# Altium integrated library Analog Devices Clock Generation and Distribution.IntLib: 120 symbols (part 14 of 18)
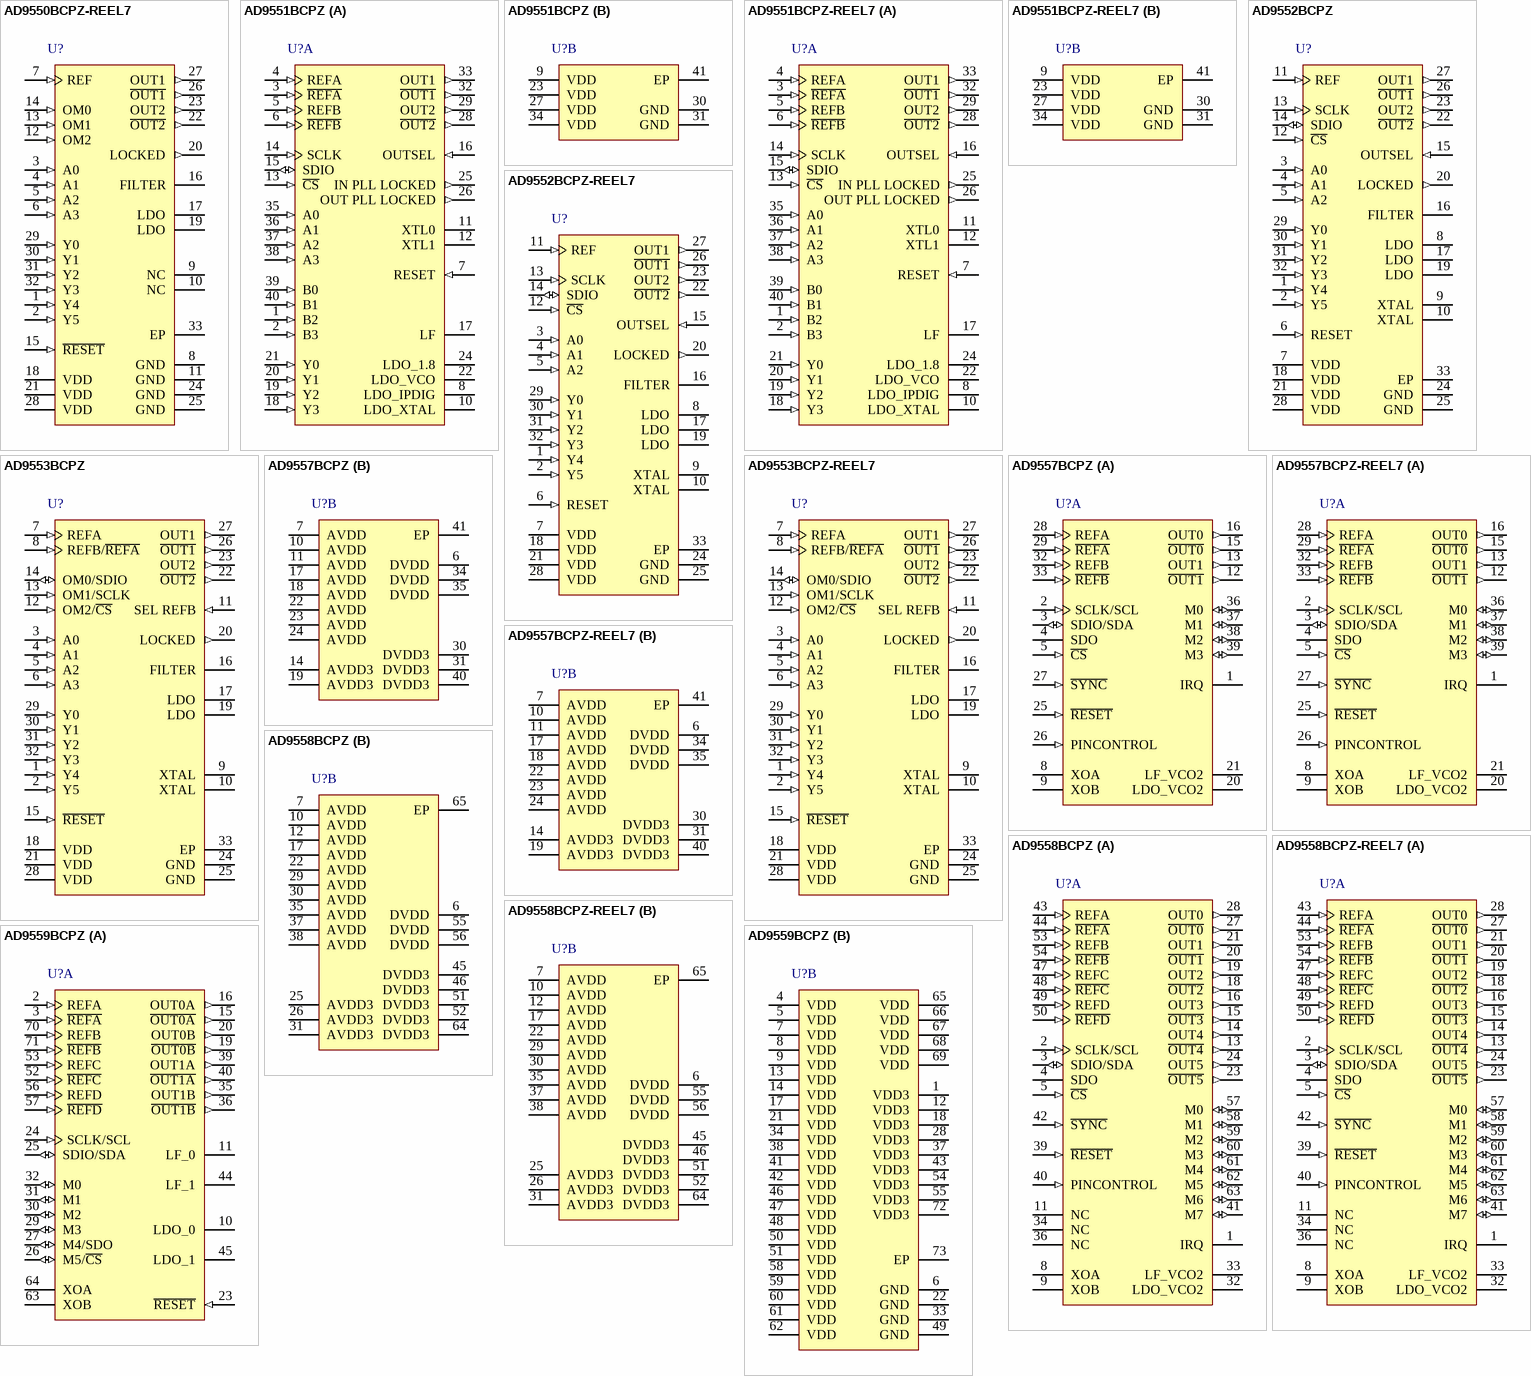
[diagram p25: symbols AD9550BCPZ-REEL7 to AD9559BCPZ]

## AD9551BCPZ-REEL7
designator U?
Multiservice Clock Generator, 3.3 V Supply, Industrial, 40-pin QFN (CP-40-8), Reel; Manufacturer: Analog Devices; PartNumber: AD9551BCPZ-REEL7; # of Inputs: 2; Supply Voltage (V): 3.3; I/O Interface: Serial; Max f-out: 900 MHz; On-Chip VCO or DCO: Yes; Output Logic: LVDS, LVPECL, CMOS; DatasheetVersion: Rev. B; PackageVersion: 082708-A, 08/2008; PackageReference: CP-40-8; PackageDescription: 40-Pin Lead Frame Chip Scale Package, Body 6 x 6 mm, Pitch 0.5 mm; Supplier 1: Digi-Key; Supplier Part Number 1: AD9551BCPZ-REEL7CT-ND; Supplier 2: Digi-Key; Supplier Part Number 2: AD9551BCPZ-REEL7DKR-ND; Supplier 3: Newark; Supplier Part Number 3: 05R6607; Supplier 4: Mouser; Supplier Part Number 4: 584-AD9551BCPZ-R7; # of Outputs: 2; Packing: Reel; Mounting Technology: Surface Mount; Code_JEDEC: MO-220-VJJD-2; ComponentLink1Description: Manufacturer URL; ComponentLink1URL: http://www.analog.com/en/index.html; ComponentLink2Description: Datasheet; ComponentLink2URL: http://www.analog.com/static/imported-files/data_sheets/AD9551.pdf; ComponentLink3Description: Package Specification; ComponentLink3URL: http:/www.analog.com/static/imported-files/packages/PKG_PDF/LFCSP(CP)/CP_40_8.pdf; ComponentLink4Description: Product URL; ComponentLink4URL: http://www.analog.com/en/clock-and-timing/clock-generation-and-distribution/ad9551/products/product.html
footprint ADI-CP-40-8_N (QFN, 40-Leads, Body 6x6mm, Pitch 0.5mm, Thermal Pad 2.9x2.9mm, IPC Medium Density)
footprint ADI-CP-40-8_L (QFN, 40-Leads, Body 6x6mm, Pitch 0.5mm, Thermal Pad 2.9x2.9mm, IPC High Density)
footprint ADI-CP-40-8_M (QFN, 40-Leads, Body 6x6mm, Pitch 0.5mm, Thermal Pad 2.9x2.9mm, IPC Low Density)
part A pins: 1 B2 (in) "Control Pin. Selects preset values for the REFB dividers.", 2 B3 (in) "Control Pin. Selects preset values for the REFB dividers.", 3 ~{REFA} (in) "Analog Input (Active High)-Complementary Reference Clock Input A.", 4 REFA (in) "Analog Input (Active High)-Reference Clock Input A.", 5 REFB (in) "Analog Input (Active High)-Reference Clock Input B.", 6 ~{REFB} (in) "Analog Input (Active High)-Complementary Reference Clock Input B.", 7 RESET (in) "Digital Input (Active High). Resets internal logic to default states. This pin has an internal 100 k ohm pull-up resistor, so the default state of the device is reset.", 8 LDO_IPDIG "LDO Decoupling Pin. Connect a 0.47 uF decoupling capacitor from this pin to ground.", 10 LDO_XTAL "LDO Decoupling Pin. Connect a 0.47 uF decoupling capacitor from this pin to ground.", 11 XTL0 "Pin for Connecting an External Crystal (20 MHz to 30 MHz).", 12 XTL1 "Pin for Connecting an External Crystal (20 MHz to 30 MHz).", 13 ~{CS} (in) "Digital Input Chip Select (Active Low).", 14 SCLK (in) "Serial Data Clock.", 15 SDIO (io) "Digital Serial Data Input/Output.", 16 OUTSEL (in) "Logic 0 selects LVDS, and Logic 1 selects LVPECL-compatible levels for both OUT1 and OUT2 when the outputs are not under SPI port control. Can be overridden via the programming registers.", 17 LF "Loop Filter Node for the Output PLL. Connect an external 12 nF capacitor (100 nF in 19.44 MHz mode) from this pin to Pin 22 ( LDO_VCO).", 18 Y3 (in) "Control Pin. Selects preset values for the output PLL feedback dividers and OUT1 dividers.", 19 Y2 (in) "Control Pin. Selects preset values for the output PLL feedback dividers and OUT1 dividers.", 20 Y1 (in) "Control Pin. Selects preset values for the output PLL feedback dividers and OUT1 dividers.", 21 Y0 (in) "Control Pin. Selects preset values for the output PLL feedback dividers and OUT1 dividers.", 22 LDO_VCO "LDO Decoupling Pin. Connect a 0.47 uF decoupling capacitor from this pin to ground.", 24 LDO_1.8 "LDO Decoupling Pin. Connect a 0.47 uF decoupling capacitor from this pin to ground.", 25 IN PLL LOCKED (out) "Active High Locked Status Indicator for the Input PLL.", 26 OUT PLL LOCKED (out) "Active High Locked Status Indicator for the Output PLL.", 28 ~{OUT2} (out) "Complementary Square Wave Clocking Output 2.", 29 OUT2 (out) "Square Wave Clocking Output 2.", 32 ~{OUT1} (out) "Complementary Square Wave Clocking Output 1.", 33 OUT1 (out) "Square Wave Clocking Output 1.", 35 A0 (in) "Control Pin. Selects preset values for the REFA dividers.", 36 A1 (in) "Control Pin. Selects preset values for the REFA dividers.", 37 A2 (in) "Control Pin. Selects preset values for the REFA dividers.", 38 A3 (in) "Control Pin. Selects preset values for the REFA dividers.", 39 B0 (in) "Control Pin. Selects preset values for the REFB dividers.", 40 B1 (in) "Control Pin. Selects preset values for the REFB dividers."
part B pins: 9 VDD (power) "Power Supply Connection (3.3 V Analog Supply).", 23 VDD (power) "Power Supply Connection (3.3 V Analog Supply).", 27 VDD (power) "Power Supply Connection (3.3 V Analog Supply).", 30 GND (power) "Analog Ground.", 31 GND (power) "Analog Ground.", 34 VDD (power) "Power Supply Connection (3.3 V Analog Supply).", 41 EP (power) "The exposed die pad must be connected to GND."

## AD9552BCPZ
designator U?
Oscillator Frequency Up Converter, 3.3 V Supply, Industrial, 32-pin QFN (CP-32-7), Tray; Manufacturer: Analog Devices; PartNumber: AD9552BCPZ; # of Inputs: 1; # of Outputs: 2; Supply Voltage (V): 3.3; I/O Interface: Pin Select, Serial; Max f-out: 900 MHz; On-Chip VCO or DCO: Yes; Output Logic: LVDS, LVPECL, CMOS; DatasheetVersion: Rev. E; PackageVersion: 112408-A, 11/2008; PackageReference: CP-32-7; PackageDescription: 32-Pin Lead Frame Chip Scale Package, Body 5 x 5 mm, Pitch 0.5 mm; Supplier 1: Digi-Key; Supplier Part Number 1: AD9552BCPZ-ND; Supplier 2: Farnell; Supplier Part Number 2: 1827294; Supplier 3: Newark; Supplier Part Number 3: 81R1746; Supplier 4: Newark; Supplier Part Number 4: 26R2515; Supplier 5: Mouser; Supplier Part Number 5: 584-AD9552BCPZ; Packing: Tray; Mounting Technology: Surface Mount; Code_JEDEC: MO-220-WHHD; ComponentLink1Description: Manufacturer URL; ComponentLink1URL: http://www.analog.com/en/index.html; ComponentLink2Description: Datasheet; ComponentLink2URL: http://www.analog.com/static/imported-files/data_sheets/AD9552.pdf; ComponentLink3Description: Package Specification; ComponentLink3URL: http://www.analog.com/static/imported-files/packages/CP_32_7.pdf; ComponentLink4Description: Product URL; ComponentLink4URL: http://www.analog.com/en/clock-and-timing/clock-generation-and-distribution/ad9552/products/product.html; ComponentLink5Description: Reference Circuit; ComponentLink5URL: http://www.analog.com/en/clock-and-timing/clock-generation-and-distribution/ad9552/products/product.html#product-recommendations
footprint ADI-CP-32-7_N (QFN, 32-Leads, Body 5x5mm, Pitch 0.5mm, Thermal Pad 3.1x3.1mm, IPC Medium Density)
footprint ADI-CP-32-7_L (QFN, 32-Leads, Body 5x5mm, Pitch 0.5mm, Thermal Pad 3.1x3.1mm, IPC High Density)
footprint ADI-CP-32-7_M (QFN, 32-Leads, Body 5x5mm, Pitch 0.5mm, Thermal Pad 3.1x3.1mm, IPC Low Density)
pins: 1 Y4 (in) "Control Pin. This pin select preset values for the PLL feedback divider and the OUT1 dividers based on the input reference frequency selected via the A[0:2] pins and have internal 100 k ohm pull-up resistors.", 2 Y5 (in) "Control Pin. This pin select preset values for the PLL feedback divider and the OUT1 dividers based on the input reference frequency selected via the A[0:2] pins and have internal 100 k ohm pull-up resistors.", 3 A0 (in) "Control Pin. This pin select the input reference frequency and have internal 100 k ohm pullup resistors.", 4 A1 (in) "Control Pin. This pin select the input reference frequency and have internal 100 k ohm pullup resistors.", 5 A2 (in) "Control Pin. This pin select the input reference frequency and have internal 100 k ohm pullup resistors.", 6 RESET (in) "Digital Input, Active High. Resets internal logic to default states. This pin has an internal 100 k ohm pull-up resistor, so the default state of the device is reset.", 7 VDD (power) "Power Supply Connection: 3.3 V Analog Supply", 8 LDO "LDO Decoupling Pin. Connect a 0.47 uF decoupling capacitor from each of these pins to ground.", 9 XTAL "Crystal Resonator Input. Connect a crystal resonator across these pins.", 10 XTAL "Crystal Resonator Input. Connect a crystal resonator across these pins.", 11 REF (in) "Reference Clock Input. Connect this pin to an active clock input signal, or connect it to VDD when using a crystal resonator across the XTAL pins.", 12 ~{CS} (in) "Digital Input, Active Low, Chip Select.", 13 SCLK (in) "Serial Data Clock.", 14 SDIO (io) "Digital Serial Data Input/Output.", 15 OUTSEL (in) "Logic 0 selects LVDS and Logic 1 selects LVPECL-compatible levels for both OUT1 and OUT2 when the outputs are not under SPI port control. Can be overridden via the programming registers. This pin has an internal 100 k ohm (See Datasheet)", 16 FILTER "Loop Filter Node for the PLL. Connect an external 12 nF capacitor from this pin to Pin 17 (LDO).", 17 LDO "LDO Decoupling Pin. Connect a 0.47 uF decoupling capacitor from each of these pins to ground.", 18 VDD (power) "Power Supply Connection: 3.3 V Analog Supply", 19 LDO "LDO Decoupling Pin. Connect a 0.47 uF decoupling capacitor from each of these pins to ground.", 20 LOCKED (out) "Active High Locked Status Indicator for the PLL.", 21 VDD (power) "Power Supply Connection: 3.3 V Analog Supply", 22 ~{OUT2} (out) "Complementary Square Wave Clocking Output.", 23 OUT2 (out) "Square Wave Clocking Output", 24 GND (power) "Analog Ground.", 25 GND (power) "Analog Ground.", 26 ~{OUT1} (out) "Complementary Square Wave Clocking Output.", 27 OUT1 (out) "Square Wave Clocking Output", 28 VDD (power) "Power Supply Connection: 3.3 V Analog Supply", 29 Y0 (in) "Control Pin. This pin select preset values for the PLL feedback divider and the OUT1 dividers based on the input reference frequency selected via the A[0:2] pins and have internal 100 k ohm pull-up resistors.", 30 Y1 (in) "Control Pin. This pin select preset values for the PLL feedback divider and the OUT1 dividers based on the input reference frequency selected via the A[0:2] pins and have internal 100 k ohm pull-up resistors.", 31 Y2 (in) "Control Pin. This pin select preset values for the PLL feedback divider and the OUT1 dividers based on the input reference frequency selected via the A[0:2] pins and have internal 100 k ohm pull-up resistors.", 32 Y3 (in) "Control Pin. This pin select preset values for the PLL feedback divider and the OUT1 dividers based on the input reference frequency selected via the A[0:2] pins and have internal 100 k ohm pull-up resistors.", 33 EP (power) "The exposed die pad must be connected to GND."

## AD9552BCPZ-REEL7
designator U?
Oscillator Frequency Up Converter, 3.3 V Supply, Industrial, 32-pin QFN (CP-32-7), Reel; Manufacturer: Analog Devices; PartNumber: AD9552BCPZ-REEL7; # of Inputs: 1; # of Outputs: 2; Supply Voltage (V): 3.3; I/O Interface: Pin Select, Serial; Max f-out: 900 MHz; On-Chip VCO or DCO: Yes; Output Logic: LVDS, LVPECL, CMOS; DatasheetVersion: Rev. E; PackageVersion: 112408-A, 11/2008; PackageReference: CP-32-7; PackageDescription: 32-Pin Lead Frame Chip Scale Package, Body 5 x 5 mm, Pitch 0.5 mm; Supplier 1: Digi-Key; Supplier Part Number 1: AD9552BCPZ-REEL7-ND; Supplier 2: Mouser; Supplier Part Number 2: 584-AD9552BCPZ-R7; Packing: Reel; Mounting Technology: Surface Mount; Code_JEDEC: MO-220-WHHD; ComponentLink1Description: Manufacturer URL; ComponentLink1URL: http://www.analog.com/en/index.html; ComponentLink2Description: Datasheet; ComponentLink2URL: http://www.analog.com/static/imported-files/data_sheets/AD9552.pdf; ComponentLink3Description: Package Specification; ComponentLink3URL: http://www.analog.com/static/imported-files/packages/CP_32_7.pdf; ComponentLink4Description: Product URL; ComponentLink4URL: http://www.analog.com/en/clock-and-timing/clock-generation-and-distribution/ad9552/products/product.html; ComponentLink5Description: Reference Circuit; ComponentLink5URL: http://www.analog.com/en/clock-and-timing/clock-generation-and-distribution/ad9552/products/product.html#product-recommendations
footprint ADI-CP-32-7_N (QFN, 32-Leads, Body 5x5mm, Pitch 0.5mm, Thermal Pad 3.1x3.1mm, IPC Medium Density)
footprint ADI-CP-32-7_L (QFN, 32-Leads, Body 5x5mm, Pitch 0.5mm, Thermal Pad 3.1x3.1mm, IPC High Density)
footprint ADI-CP-32-7_M (QFN, 32-Leads, Body 5x5mm, Pitch 0.5mm, Thermal Pad 3.1x3.1mm, IPC Low Density)
pins: 1 Y4 (in) "Control Pin. This pin select preset values for the PLL feedback divider and the OUT1 dividers based on the input reference frequency selected via the A[0:2] pins and have internal 100 k ohm pull-up resistors.", 2 Y5 (in) "Control Pin. This pin select preset values for the PLL feedback divider and the OUT1 dividers based on the input reference frequency selected via the A[0:2] pins and have internal 100 k ohm pull-up resistors.", 3 A0 (in) "Control Pin. This pin select the input reference frequency and have internal 100 k ohm pullup resistors.", 4 A1 (in) "Control Pin. This pin select the input reference frequency and have internal 100 k ohm pullup resistors.", 5 A2 (in) "Control Pin. This pin select the input reference frequency and have internal 100 k ohm pullup resistors.", 6 RESET (in) "Digital Input, Active High. Resets internal logic to default states. This pin has an internal 100 k ohm pull-up resistor, so the default state of the device is reset.", 7 VDD (power) "Power Supply Connection: 3.3 V Analog Supply", 8 LDO "LDO Decoupling Pin. Connect a 0.47 uF decoupling capacitor from each of these pins to ground.", 9 XTAL "Crystal Resonator Input. Connect a crystal resonator across these pins.", 10 XTAL "Crystal Resonator Input. Connect a crystal resonator across these pins.", 11 REF (in) "Reference Clock Input. Connect this pin to an active clock input signal, or connect it to VDD when using a crystal resonator across the XTAL pins.", 12 ~{CS} (in) "Digital Input, Active Low, Chip Select.", 13 SCLK (in) "Serial Data Clock.", 14 SDIO (io) "Digital Serial Data Input/Output.", 15 OUTSEL (in) "Logic 0 selects LVDS and Logic 1 selects LVPECL-compatible levels for both OUT1 and OUT2 when the outputs are not under SPI port control. Can be overridden via the programming registers. This pin has an internal 100 k ohm (See Datasheet)", 16 FILTER "Loop Filter Node for the PLL. Connect an external 12 nF capacitor from this pin to Pin 17 (LDO).", 17 LDO "LDO Decoupling Pin. Connect a 0.47 uF decoupling capacitor from each of these pins to ground.", 18 VDD (power) "Power Supply Connection: 3.3 V Analog Supply", 19 LDO "LDO Decoupling Pin. Connect a 0.47 uF decoupling capacitor from each of these pins to ground.", 20 LOCKED (out) "Active High Locked Status Indicator for the PLL.", 21 VDD (power) "Power Supply Connection: 3.3 V Analog Supply", 22 ~{OUT2} (out) "Complementary Square Wave Clocking Output.", 23 OUT2 (out) "Square Wave Clocking Output", 24 GND (power) "Analog Ground.", 25 GND (power) "Analog Ground.", 26 ~{OUT1} (out) "Complementary Square Wave Clocking Output.", 27 OUT1 (out) "Square Wave Clocking Output", 28 VDD (power) "Power Supply Connection: 3.3 V Analog Supply", 29 Y0 (in) "Control Pin. This pin select preset values for the PLL feedback divider and the OUT1 dividers based on the input reference frequency selected via the A[0:2] pins and have internal 100 k ohm pull-up resistors.", 30 Y1 (in) "Control Pin. This pin select preset values for the PLL feedback divider and the OUT1 dividers based on the input reference frequency selected via the A[0:2] pins and have internal 100 k ohm pull-up resistors.", 31 Y2 (in) "Control Pin. This pin select preset values for the PLL feedback divider and the OUT1 dividers based on the input reference frequency selected via the A[0:2] pins and have internal 100 k ohm pull-up resistors.", 32 Y3 (in) "Control Pin. This pin select preset values for the PLL feedback divider and the OUT1 dividers based on the input reference frequency selected via the A[0:2] pins and have internal 100 k ohm pull-up resistors.", 33 EP (power) "The exposed die pad must be connected to GND."

## AD9553BCPZ
designator U?
Flexible Clock Translator for GPON, Base Station, SONET / SDH, T1 / E1, and Ethernet, 3.3 V Supply, Industrial, 32-pin QFN (CP-32-7), Tray; Manufacturer: Analog Devices; PartNumber: AD9553BCPZ; # of Inputs: 1; # of Outputs: 2; Supply Voltage (V): 3.3; I/O Interface: Pin Select, Serial; Max f-out: 810 MHz; On-Chip VCO or DCO: Yes; Output Logic: LVDS, LVPECL, CMOS; DatasheetVersion: Rev. A; PackageVersion: 112408-A, 11/2008; PackageReference: CP-32-7; PackageDescription: 32-Pin Lead Frame Chip Scale Package, Body 5 x 5 mm, Pitch 0.5 mm; Supplier 1: Digi-Key; Supplier Part Number 1: AD9553BCPZ-ND; Supplier 2: Newark; Supplier Part Number 2: 76R7634; Supplier 3: Mouser; Supplier Part Number 3: 584-AD9553BCPZ; Packing: Tray; Mounting Technology: Surface Mount; Code_JEDEC: MO-220-WHHD; ComponentLink1Description: Manufacturer URL; ComponentLink1URL: http://www.analog.com/en/index.html; ComponentLink2Description: Datasheet; ComponentLink2URL: http://www.analog.com/static/imported-files/data_sheets/AD9553.pdf; ComponentLink3Description: Package Specification; ComponentLink3URL: http://www.analog.com/static/imported-files/packages/CP_32_7.pdf; ComponentLink4Description: Product URL; ComponentLink4URL: http://www.analog.com/en/clock-and-timing/clock-generation-and-distribution/ad9553/products/product.html
footprint ADI-CP-32-7_N (QFN, 32-Leads, Body 5x5mm, Pitch 0.5mm, Thermal Pad 3.1x3.1mm, IPC Medium Density)
footprint ADI-CP-32-7_L (QFN, 32-Leads, Body 5x5mm, Pitch 0.5mm, Thermal Pad 3.1x3.1mm, IPC High Density)
footprint ADI-CP-32-7_M (QFN, 32-Leads, Body 5x5mm, Pitch 0.5mm, Thermal Pad 3.1x3.1mm, IPC Low Density)
pins: 1 Y4 (in) "Control Pins. These pins select one of 52 preset output frequency combinations for OUT1 and OUT2. Note that when all six control pins are Logic 0, SPI programming is active.", 2 Y5 (in) "Control Pins. These pins select one of 52 preset output frequency combinations for OUT1 and OUT2. Note that when all six control pins are Logic 0, SPI programming is active.", 3 A0 (in) "Control Pins. These pins select one of 15 preset input reference frequencies. Note that when all four control pins are Logic 0, SPI programming is active.", 4 A1 (in) "Control Pins. These pins select one of 15 preset input reference frequencies. Note that when all four control pins are Logic 0, SPI programming is active.", 5 A2 (in) "Control Pins. These pins select one of 15 preset input reference frequencies. Note that when all four control pins are Logic 0, SPI programming is active.", 6 A3 (in) "Control Pins. These pins select one of 15 preset input reference frequencies. Note that when all four control pins are Logic 0, SPI programming is active.", 7 REFA (in) "Reference Clock Input. Connect this pin to a single-ended active clock input signal. Alternatively, this pin is the noninverted part of a differential clock input signal.", 8 REFB/~{REFA} (in) "Reference Clock Input. Connect this pin to a single-ended active clock input signal. Alternatively, this pin is the inverted part of a differential clock input signal.", 9 XTAL "Crystal Resonator Input. Connect a crystal resonator across these pins. Alternatively, connect a single-ended clock source (CMOS compatible) to either input pin (let the unused pin float). When using the preset input/output (See Datasheet)", 10 XTAL "Crystal Resonator Input. Connect a crystal resonator across these pins. Alternatively, connect a single-ended clock source (CMOS compatible) to either input pin (let the unused pin float). When using the preset input/output (See Datasheet)", 11 SEL REFB (in) "Control Pin. This pin allows manual selection of REFA (Logic 0) or REFB (Logic 1) as the active reference assuming that the desired reference signal is present. Note that this pin is nonfunctional when Register 0x29[5] = 1.", 12 OM2/~{CS} (in) "Digital Input. When the device is not in SPI mode, this pin is an output mode control pin (OM2) with an internal 40 kohm pull-up resistor. The OM2 pin, in conjunction with the OM0 and OM1 pins, allows the user to select one (See Datasheet)", 13 OM1/SCLK (in) "Digital Input. When the device is not in SPI mode, this pin is an output mode control pin (OM1) with an internal 40 kohm pull-up resistor. The OM1 pin, in conjunction with the OM0 and OM2 pins, allows the user to select one (See Datasheet)", 14 OM0/SDIO (io) "Digital Input/Output. When the device is not in SPI mode, this pin is an input only and functions as an output mode control pin (OM0) with an internal 40 kohm pull-up resistor. The OM0 pin, in conjunction with the OM1 and (See Datasheet)", 15 ~{RESET} (in) "Reset Internal Logic. This is a digital input pin. This pin is active low with a 100 kohm internal pull-up resistor and resets the internal logic to default states (see the Automatic Power-On Reset section).", 16 FILTER "Loop Filter Node for the PLL. Connect external loop filter components (see Figure 30) from this pin to Pin 17 (LDO).", 17 LDO "LDO Decoupling Pins. Connect a 0.47 uF decoupling capacitor from each of these pins to ground.", 18 VDD (power) "Power Supply Connection: 3.3 V Analog Supply.", 19 LDO "LDO Decoupling Pins. Connect a 0.47 uF decoupling capacitor from each of these pins to ground.", 20 LOCKED (out) "Active High Locked Status Indicator for the PLL.", 21 VDD (power) "Power Supply Connection: 3.3 V Analog Supply.", 22 ~{OUT2} (out) "Complementary Square Wave Clocking Outputs.", 23 OUT2 (out) "Square Wave Clocking Outputs.", 24 GND (power) "Ground.", 25 GND (power) "Ground.", 26 ~{OUT1} (out) "Complementary Square Wave Clocking Outputs.", 27 OUT1 (out) "Square Wave Clocking Outputs.", 28 VDD (power) "Power Supply Connection: 3.3 V Analog Supply.", 29 Y0 (in) "Control Pins. These pins select one of 52 preset output frequency combinations for OUT1 and OUT2. Note that when all six control pins are Logic 0, SPI programming is active.", 30 Y1 (in) "Control Pins. These pins select one of 52 preset output frequency combinations for OUT1 and OUT2. Note that when all six control pins are Logic 0, SPI programming is active.", 31 Y2 (in) "Control Pins. These pins select one of 52 preset output frequency combinations for OUT1 and OUT2. Note that when all six control pins are Logic 0, SPI programming is active.", 32 Y3 (in) "Control Pins. These pins select one of 52 preset output frequency combinations for OUT1 and OUT2. Note that when all six control pins are Logic 0, SPI programming is active.", 33 EP (power) "Exposed Pad. The exposed die pad must be connected to GND."

## AD9553BCPZ-REEL7
designator U?
Flexible Clock Translator for GPON, Base Station, SONET / SDH, T1 / E1, and Ethernet, 3.3 V Supply, Industrial, 32-pin QFN (CP-32-7), Reel; Manufacturer: Analog Devices; PartNumber: AD9553BCPZ-REEL7; # of Inputs: 1; # of Outputs: 2; Supply Voltage (V): 3.3; I/O Interface: Pin Select, Serial; Max f-out: 810 MHz; On-Chip VCO or DCO: Yes; Output Logic: LVDS, LVPECL, CMOS; DatasheetVersion: Rev. A; PackageVersion: 112408-A, 11/2008; PackageReference: CP-32-7; PackageDescription: 32-Pin Lead Frame Chip Scale Package, Body 5 x 5 mm, Pitch 0.5 mm; Supplier 1: Digi-Key; Supplier Part Number 1: AD9553BCPZ-REEL7-ND; Supplier 2: Mouser; Supplier Part Number 2: 584-AD9553BCPZ-R7; Packing: Reel; Mounting Technology: Surface Mount; Code_JEDEC: MO-220-WHHD; ComponentLink1Description: Manufacturer URL; ComponentLink1URL: http://www.analog.com/en/index.html; ComponentLink2Description: Datasheet; ComponentLink2URL: http://www.analog.com/static/imported-files/data_sheets/AD9553.pdf; ComponentLink3Description: Package Specification; ComponentLink3URL: http://www.analog.com/static/imported-files/packages/CP_32_7.pdf; ComponentLink4Description: Product URL; ComponentLink4URL: http://www.analog.com/en/clock-and-timing/clock-generation-and-distribution/ad9553/products/product.html
footprint ADI-CP-32-7_N (QFN, 32-Leads, Body 5x5mm, Pitch 0.5mm, Thermal Pad 3.1x3.1mm, IPC Medium Density)
footprint ADI-CP-32-7_L (QFN, 32-Leads, Body 5x5mm, Pitch 0.5mm, Thermal Pad 3.1x3.1mm, IPC High Density)
footprint ADI-CP-32-7_M (QFN, 32-Leads, Body 5x5mm, Pitch 0.5mm, Thermal Pad 3.1x3.1mm, IPC Low Density)
pins: 1 Y4 (in) "Control Pins. These pins select one of 52 preset output frequency combinations for OUT1 and OUT2. Note that when all six control pins are Logic 0, SPI programming is active.", 2 Y5 (in) "Control Pins. These pins select one of 52 preset output frequency combinations for OUT1 and OUT2. Note that when all six control pins are Logic 0, SPI programming is active.", 3 A0 (in) "Control Pins. These pins select one of 15 preset input reference frequencies. Note that when all four control pins are Logic 0, SPI programming is active.", 4 A1 (in) "Control Pins. These pins select one of 15 preset input reference frequencies. Note that when all four control pins are Logic 0, SPI programming is active.", 5 A2 (in) "Control Pins. These pins select one of 15 preset input reference frequencies. Note that when all four control pins are Logic 0, SPI programming is active.", 6 A3 (in) "Control Pins. These pins select one of 15 preset input reference frequencies. Note that when all four control pins are Logic 0, SPI programming is active.", 7 REFA (in) "Reference Clock Input. Connect this pin to a single-ended active clock input signal. Alternatively, this pin is the noninverted part of a differential clock input signal.", 8 REFB/~{REFA} (in) "Reference Clock Input. Connect this pin to a single-ended active clock input signal. Alternatively, this pin is the inverted part of a differential clock input signal.", 9 XTAL "Crystal Resonator Input. Connect a crystal resonator across these pins. Alternatively, connect a single-ended clock source (CMOS compatible) to either input pin (let the unused pin float). When using the preset input/output (See Datasheet)", 10 XTAL "Crystal Resonator Input. Connect a crystal resonator across these pins. Alternatively, connect a single-ended clock source (CMOS compatible) to either input pin (let the unused pin float). When using the preset input/output (See Datasheet)", 11 SEL REFB (in) "Control Pin. This pin allows manual selection of REFA (Logic 0) or REFB (Logic 1) as the active reference assuming that the desired reference signal is present. Note that this pin is nonfunctional when Register 0x29[5] = 1.", 12 OM2/~{CS} (in) "Digital Input. When the device is not in SPI mode, this pin is an output mode control pin (OM2) with an internal 40 kohm pull-up resistor. The OM2 pin, in conjunction with the OM0 and OM1 pins, allows the user to select one (See Datasheet)", 13 OM1/SCLK (in) "Digital Input. When the device is not in SPI mode, this pin is an output mode control pin (OM1) with an internal 40 kohm pull-up resistor. The OM1 pin, in conjunction with the OM0 and OM2 pins, allows the user to select one (See Datasheet)", 14 OM0/SDIO (io) "Digital Input/Output. When the device is not in SPI mode, this pin is an input only and functions as an output mode control pin (OM0) with an internal 40 kohm pull-up resistor. The OM0 pin, in conjunction with the OM1 and (See Datasheet)", 15 ~{RESET} (in) "Reset Internal Logic. This is a digital input pin. This pin is active low with a 100 kohm internal pull-up resistor and resets the internal logic to default states (see the Automatic Power-On Reset section).", 16 FILTER "Loop Filter Node for the PLL. Connect external loop filter components (see Figure 30) from this pin to Pin 17 (LDO).", 17 LDO "LDO Decoupling Pins. Connect a 0.47 uF decoupling capacitor from each of these pins to ground.", 18 VDD (power) "Power Supply Connection: 3.3 V Analog Supply.", 19 LDO "LDO Decoupling Pins. Connect a 0.47 uF decoupling capacitor from each of these pins to ground.", 20 LOCKED (out) "Active High Locked Status Indicator for the PLL.", 21 VDD (power) "Power Supply Connection: 3.3 V Analog Supply.", 22 ~{OUT2} (out) "Complementary Square Wave Clocking Outputs.", 23 OUT2 (out) "Square Wave Clocking Outputs.", 24 GND (power) "Ground.", 25 GND (power) "Ground.", 26 ~{OUT1} (out) "Complementary Square Wave Clocking Outputs.", 27 OUT1 (out) "Square Wave Clocking Outputs.", 28 VDD (power) "Power Supply Connection: 3.3 V Analog Supply.", 29 Y0 (in) "Control Pins. These pins select one of 52 preset output frequency combinations for OUT1 and OUT2. Note that when all six control pins are Logic 0, SPI programming is active.", 30 Y1 (in) "Control Pins. These pins select one of 52 preset output frequency combinations for OUT1 and OUT2. Note that when all six control pins are Logic 0, SPI programming is active.", 31 Y2 (in) "Control Pins. These pins select one of 52 preset output frequency combinations for OUT1 and OUT2. Note that when all six control pins are Logic 0, SPI programming is active.", 32 Y3 (in) "Control Pins. These pins select one of 52 preset output frequency combinations for OUT1 and OUT2. Note that when all six control pins are Logic 0, SPI programming is active.", 33 EP (power) "Exposed Pad. The exposed die pad must be connected to GND."

## AD9557BCPZ
designator U?
Dual-Input Multiservice Line Card Adaptive Clock Translator, 3.3 V Supply, Industrial, 40-pin QFN (CP-40-13), Tray; Manufacturer: Analog Devices; PartNumber: AD9557BCPZ; # of Inputs: 2; # of Outputs: 4; Supply Voltage (V): 3.3; I/O Interface: Serial; Max f-out: 1.25 GHz; Output Logic: CMOS, LVDS, HSTL; DatasheetVersion: Rev. A; PackageVersion: 05-19-2010-A, 05/2010; PackageReference: CP-40-13; PackageDescription: 40-Pin Lead Frame Chip Scale Package, Body 6 x 6 mm, Pitch 0.5 mm; Supplier 1: Digi-Key; Supplier Part Number 1: AD9557BCPZ-ND; Supplier 2: Farnell; Supplier Part Number 2: 2065948; Supplier 3: Newark; Supplier Part Number 3: 55T8958; Supplier 4: Mouser; Supplier Part Number 4: 584-AD9557BCPZ; Packing: Tray; Mounting Technology: Surface Mount; Code_JEDEC: MO-220-VJJD-2; ComponentLink1Description: Manufacturer URL; ComponentLink1URL: http://www.analog.com/en/index.html; ComponentLink2Description: Datasheet; ComponentLink2URL: http://www.analog.com/static/imported-files/data_sheets/AD9557.pdf; ComponentLink3Description: Package Specification; ComponentLink3URL: http:/www.analog.com/static/imported-files/packages/PKG_PDF/LFCSP(CP)/CP_40_13.pdf; ComponentLink4Description: Product URL; ComponentLink4URL: http://www.analog.com/en/clock-and-timing/clock-generation-and-distribution/ad9557/products/product.html
footprint ADI-CP-40-13_N (QFN, 40-Leads, Body 6x6mm, Pitch 0.5mm, Thermal Pad 4.5x4.5mm, IPC Medium Density)
footprint ADI-CP-40-13_L (QFN, 40-Leads, Body 6x6mm, Pitch 0.5mm, Thermal Pad 4.5x4.5mm, IPC High Density)
footprint ADI-CP-40-13_M (QFN, 40-Leads, Body 6x6mm, Pitch 0.5mm, Thermal Pad 4.5x4.5mm, IPC Low Density)
part A pins: 1 IRQ (hiz) "Interrupt Request Line.", 2 SCLK/SCL (in) "Serial Programming Clock (SCLK) in SPI Mode. Data clock for serial programming. Serial Clock Pin (SCL) in I2C Mode", 3 SDIO/SDA (io) "Serial Data Input/Output (SDIO) in SPI Mode. When the device is in 4-wire SPI mode, data is written via this pin. In 3-wire mode, both data reads and writes occur on this pin. There is no internal pull-up/pull-down resistor (See Datasheet)", 4 SDO (hiz) "Serial Data Output. Use this pin to read data in 4-wire mode. There is no internal pull-up/pull-down resistor on this pin. This pin is high impedance in the default 3-wire mode.", 5 ~{CS} (in) "Chip Select (SPI), Active Low. When programming a device, this pin must be held low. In systems where more than one AD9557 is present, this pin enables individual programming of each AD9557. This pin has an internal 10 k ohm (See Datasheet)", 8 XOA "System Clock Input. XOA contains internal dc biasing and should be ac-coupled with a 0.01 uF capacitor, except when using a crystal, in which case connect the crystal across XOA and XOB. Single-ended 1.8 V CMOS is also an (See Datasheet)", 9 XOB "Complementary System Clock Input. Complementary signal to XOA. XOB contains internal dc biasing and should be ac-coupled with a 0.01 uF capacitor, except when using a crystal, in which case connect the crystal across XOA and (See Datasheet)", 12 ~{OUT1} (out) "Complementary Output 1. This output can be configured as HSTL, LVDS, or single-ended 1.8 V CMOS.", 13 OUT1 (out) "Output 1. This output can be configured as HSTL, LVDS, or single-ended 1.8 V CMOS. LVPECL levels can be achieved by ac coupling and using the Thevenin-equivalent termination as described in the Input/Output Termination (See Datasheet)", 15 ~{OUT0} (out) "Complementary Output 0. This output can be configured as HSTL, LVDS, or single-ended 1.8 V or 3.3 V CMOS.", 16 OUT0 (out) "Output 0. This output can be configured as HSTL, LVDS, or single-ended 1.8 V or 3.3 V CMOS. LVPECL levels can be achieved by ac coupling and using the Thevenin-equivalent termination as described in the Input/Output (See Datasheet)", 20 LDO_VCO2 "Output PLL Loop Filter Voltage Regulator. Connect a 0.47 uF capacitor from this pin to ground. This pin is also the ac ground reference for the integrated output PLL external loop filter.", 21 LF_VCO2 "Loop Filter Node for the Output PLL. Connect an external 6.8 nF capacitor from this pin to Pin 20 (LDO_VCO2).", 25 ~{RESET} (in) "Chip Reset. When this active low pin is asserted, the chip goes into reset. This pin has an internal 50 k ohm pull-up resistor.", 26 PINCONTROL (in) "Pin Program Mode Enable Pin. When pulled high during startup, this pin enables pin programming of the AD9557 configuration during startup. If this pin is low during startup, the user must program the part via the serial port (See Datasheet)", 27 ~{SYNC} (in) "Clock Distribution Synchronization Pin. When this pin is activated, output drivers are held static and then synchronized on a low-to-high transition of this pin. This pin has an internal 60 k ohm pull-up resisto", 28 REFA (in) "Reference A Input. This internally biased input is typically ac-coupled and, when configured as such, can accept any differential signal with single-ended swing up to 3.3 V. If dc-coupled, input can be LVPECL, LVDS, or (See Datasheet)", 29 ~{REFA} (in) "Complementary Reference A Input. This pin is the complementary input to Pin 28", 32 REFB (in) "Reference B Input. This internally biased input is typically ac-coupled and, when configured as such, can accept any differential signal with single-ended swing up to 3.3 V. If dc-coupled, input can be LVPECL, LVDS, or (See Datasheet)", 33 ~{REFB} (in) "Complementary Reference B Input. This pin is the complementary input to Pin 32.", 36 M0 (io) "Configurable I/O Pins. These pins are 3-level logic at startup and are used for pin strapping the input and output frequency configuration at startup. Setting Register 0x0200[0] = 1 changes these pins to 2-level logic and (See Datasheet)", 37 M1 (io) "Configurable I/O Pins. These pins are 3-level logic at startup and are used for pin strapping the input and output frequency configuration at startup. Setting Register 0x0200[0] = 1 changes these pins to 2-level logic and (See Datasheet)", 38 M2 (io) "Configurable I/O Pins. These pins are 3-level logic at startup and are used for pin strapping the input and output frequency configuration at startup. Setting Register 0x0200[0] = 1 changes these pins to 2-level logic and (See Datasheet)", 39 M3 (io) "Configurable I/O Pins. These pins are 3-level logic at startup and are used for pin strapping the input and output frequency configuration at startup. Setting Register 0x0200[0] = 1 changes these pins to 2-level logic and (See Datasheet)"
part B pins: 6 DVDD (power) "1.8 V Digital Supply.", 7 AVDD (power) "1.8 V Analog Power Supply.", 10 AVDD (power) "1.8 V Analog Power Supply.", 11 AVDD (power) "1.8 V Analog (Output Divider and Drivers) Power Supply.", 14 AVDD3 (power) "3.3 V Analog Power Supply.", 17 AVDD (power) "1.8 V Analog (Output Divider and Drivers) Power Supply", 18 AVDD (power) "1.8 V Analog (Output Divider and Drivers) Power Supply", 19 AVDD3 (power) "3.3 V Analog Power Supply.", 22 AVDD (power) "1.8 V Analog Power Supply", 23 AVDD (power) "1.8 V Analog Power Supply", 24 AVDD (power) "1.8 V Analog Power Supply", 30 DVDD3 (power) "3.3 V Digital Power Supply.", 31 DVDD3 (power) "3.3 V Digital Power Supply.", 34 DVDD (power) "1.8 V Digital Supply.", 35 DVDD (power) "1.8 V Digital Supply.", 40 DVDD3 (power) "3.3 V Digital Power Supply.", 41 EP (power) "The exposed pad must be connected to ground (VSS)."

## AD9557BCPZ-REEL7
designator U?
Dual-Input Multiservice Line Card Adaptive Clock Translator, 3.3 V Supply, Industrial, 40-pin QFN (CP-40-13), Reel; Manufacturer: Analog Devices; PartNumber: AD9557BCPZ-REEL7; # of Inputs: 2; # of Outputs: 4; Supply Voltage (V): 3.3; I/O Interface: Serial; Max f-out: 1.25 GHz; Output Logic: CMOS, LVDS, HSTL; DatasheetVersion: Rev. A; PackageVersion: 05-19-2010-A, 05/2010; PackageReference: CP-40-13; PackageDescription: 40-Pin Lead Frame Chip Scale Package, Body 6 x 6 mm, Pitch 0.5 mm; Supplier 1: Digi-Key; Supplier Part Number 1: AD9557BCPZ-REEL7-ND; Supplier 2: Mouser; Supplier Part Number 2: 584-AD9557BCPZ-R7; Packing: Reel; Mounting Technology: Surface Mount; Code_JEDEC: MO-220-VJJD-2; ComponentLink1Description: Manufacturer URL; ComponentLink1URL: http://www.analog.com/en/index.html; ComponentLink2Description: Datasheet; ComponentLink2URL: http://www.analog.com/static/imported-files/data_sheets/AD9557.pdf; ComponentLink3Description: Package Specification; ComponentLink3URL: http:/www.analog.com/static/imported-files/packages/PKG_PDF/LFCSP(CP)/CP_40_13.pdf; ComponentLink4Description: Product URL; ComponentLink4URL: http://www.analog.com/en/clock-and-timing/clock-generation-and-distribution/ad9557/products/product.html
footprint ADI-CP-40-13_N (QFN, 40-Leads, Body 6x6mm, Pitch 0.5mm, Thermal Pad 4.5x4.5mm, IPC Medium Density)
footprint ADI-CP-40-13_L (QFN, 40-Leads, Body 6x6mm, Pitch 0.5mm, Thermal Pad 4.5x4.5mm, IPC High Density)
footprint ADI-CP-40-13_M (QFN, 40-Leads, Body 6x6mm, Pitch 0.5mm, Thermal Pad 4.5x4.5mm, IPC Low Density)
part A pins: 1 IRQ (hiz) "Interrupt Request Line.", 2 SCLK/SCL (in) "Serial Programming Clock (SCLK) in SPI Mode. Data clock for serial programming. Serial Clock Pin (SCL) in I2C Mode", 3 SDIO/SDA (io) "Serial Data Input/Output (SDIO) in SPI Mode. When the device is in 4-wire SPI mode, data is written via this pin. In 3-wire mode, both data reads and writes occur on this pin. There is no internal pull-up/pull-down resistor (See Datasheet)", 4 SDO (hiz) "Serial Data Output. Use this pin to read data in 4-wire mode. There is no internal pull-up/pull-down resistor on this pin. This pin is high impedance in the default 3-wire mode.", 5 ~{CS} (in) "Chip Select (SPI), Active Low. When programming a device, this pin must be held low. In systems where more than one AD9557 is present, this pin enables individual programming of each AD9557. This pin has an internal 10 k ohm (See Datasheet)", 8 XOA "System Clock Input. XOA contains internal dc biasing and should be ac-coupled with a 0.01 uF capacitor, except when using a crystal, in which case connect the crystal across XOA and XOB. Single-ended 1.8 V CMOS is also an (See Datasheet)", 9 XOB "Complementary System Clock Input. Complementary signal to XOA. XOB contains internal dc biasing and should be ac-coupled with a 0.01 uF capacitor, except when using a crystal, in which case connect the crystal across XOA and (See Datasheet)", 12 ~{OUT1} (out) "Complementary Output 1. This output can be configured as HSTL, LVDS, or single-ended 1.8 V CMOS.", 13 OUT1 (out) "Output 1. This output can be configured as HSTL, LVDS, or single-ended 1.8 V CMOS. LVPECL levels can be achieved by ac coupling and using the Thevenin-equivalent termination as described in the Input/Output Termination (See Datasheet)", 15 ~{OUT0} (out) "Complementary Output 0. This output can be configured as HSTL, LVDS, or single-ended 1.8 V or 3.3 V CMOS.", 16 OUT0 (out) "Output 0. This output can be configured as HSTL, LVDS, or single-ended 1.8 V or 3.3 V CMOS. LVPECL levels can be achieved by ac coupling and using the Thevenin-equivalent termination as described in the Input/Output (See Datasheet)", 20 LDO_VCO2 "Output PLL Loop Filter Voltage Regulator. Connect a 0.47 uF capacitor from this pin to ground. This pin is also the ac ground reference for the integrated output PLL external loop filter.", 21 LF_VCO2 "Loop Filter Node for the Output PLL. Connect an external 6.8 nF capacitor from this pin to Pin 20 (LDO_VCO2).", 25 ~{RESET} (in) "Chip Reset. When this active low pin is asserted, the chip goes into reset. This pin has an internal 50 k ohm pull-up resistor.", 26 PINCONTROL (in) "Pin Program Mode Enable Pin. When pulled high during startup, this pin enables pin programming of the AD9557 configuration during startup. If this pin is low during startup, the user must program the part via the serial port (See Datasheet)", 27 ~{SYNC} (in) "Clock Distribution Synchronization Pin. When this pin is activated, output drivers are held static and then synchronized on a low-to-high transition of this pin. This pin has an internal 60 k ohm pull-up resisto", 28 REFA (in) "Reference A Input. This internally biased input is typically ac-coupled and, when configured as such, can accept any differential signal with single-ended swing up to 3.3 V. If dc-coupled, input can be LVPECL, LVDS, or (See Datasheet)", 29 ~{REFA} (in) "Complementary Reference A Input. This pin is the complementary input to Pin 28", 32 REFB (in) "Reference B Input. This internally biased input is typically ac-coupled and, when configured as such, can accept any differential signal with single-ended swing up to 3.3 V. If dc-coupled, input can be LVPECL, LVDS, or (See Datasheet)", 33 ~{REFB} (in) "Complementary Reference B Input. This pin is the complementary input to Pin 32.", 36 M0 (io) "Configurable I/O Pins. These pins are 3-level logic at startup and are used for pin strapping the input and output frequency configuration at startup. Setting Register 0x0200[0] = 1 changes these pins to 2-level logic and (See Datasheet)", 37 M1 (io) "Configurable I/O Pins. These pins are 3-level logic at startup and are used for pin strapping the input and output frequency configuration at startup. Setting Register 0x0200[0] = 1 changes these pins to 2-level logic and (See Datasheet)", 38 M2 (io) "Configurable I/O Pins. These pins are 3-level logic at startup and are used for pin strapping the input and output frequency configuration at startup. Setting Register 0x0200[0] = 1 changes these pins to 2-level logic and (See Datasheet)", 39 M3 (io) "Configurable I/O Pins. These pins are 3-level logic at startup and are used for pin strapping the input and output frequency configuration at startup. Setting Register 0x0200[0] = 1 changes these pins to 2-level logic and (See Datasheet)"
part B pins: 6 DVDD (power) "1.8 V Digital Supply.", 7 AVDD (power) "1.8 V Analog Power Supply.", 10 AVDD (power) "1.8 V Analog Power Supply.", 11 AVDD (power) "1.8 V Analog (Output Divider and Drivers) Power Supply.", 14 AVDD3 (power) "3.3 V Analog Power Supply.", 17 AVDD (power) "1.8 V Analog (Output Divider and Drivers) Power Supply", 18 AVDD (power) "1.8 V Analog (Output Divider and Drivers) Power Supply", 19 AVDD3 (power) "3.3 V Analog Power Supply.", 22 AVDD (power) "1.8 V Analog Power Supply", 23 AVDD (power) "1.8 V Analog Power Supply", 24 AVDD (power) "1.8 V Analog Power Supply", 30 DVDD3 (power) "3.3 V Digital Power Supply.", 31 DVDD3 (power) "3.3 V Digital Power Supply.", 34 DVDD (power) "1.8 V Digital Supply.", 35 DVDD (power) "1.8 V Digital Supply.", 40 DVDD3 (power) "3.3 V Digital Power Supply.", 41 EP (power) "The exposed pad must be connected to ground (VSS)."